# EAGLE library part INA_219DC (library INA219_DC)
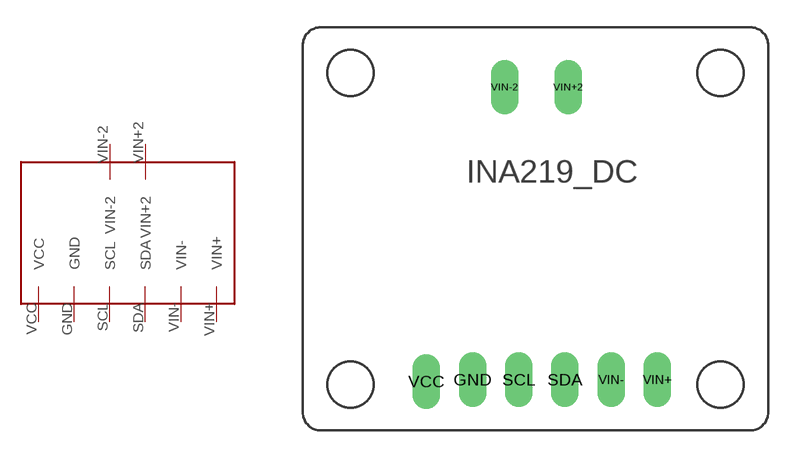
[diagram p0: symbol with the pads of INA_219DC; footprint INA_219DC]

Designator prefix -

## INA_219DC  [INA_219DC]
GND  GND
SCL  SCL
SDA  SDA
VCC  VCC
VIN+  VIN+
VIN+2  VIN+2
VIN-  VIN-
VIN-2  VIN-2

## Footprint INA_219DC (pad centres in mm)
drill 1 pad 1.5 long: GND -3.46,-8.3; SCL -0.92,-8.3; SDA 1.62,-8.3; VCC -6,-8.4; VIN+ 6.7,-8.3; VIN+2 1.8,7.8; VIN- 4.16,-8.3; VIN-2 -1.7,7.8